# Altium schematic symbol library AVA-0233LN+.SchLib: 1 symbol
Pins are listed as number, name and electrical type; pins without a type are passive.

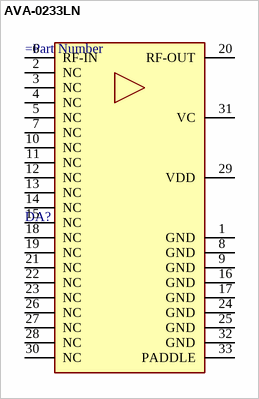
[diagram p0: symbol AVA-0233LN]

## AVA-0233LN
designator DA?
Wideband LNA 2 to 30 GHz
pins: 1 GND (power), 2 NC, 3 NC, 4 NC, 5 NC, 6 RF-IN, 7 NC, 8 GND (power), 9 GND (power), 10 NC, 11 NC, 12 NC, 13 NC, 14 NC, 15 NC, 16 GND (power), 17 GND (power), 18 NC, 19 NC, 20 RF-OUT, 21 NC, 22 NC, 23 NC, 24 GND (power), 25 GND (power), 26 NC, 27 NC, 28 NC, 29 VDD (power), 30 NC, 31 VC, 32 GND (power), 33 PADDLE (power)